# EAGLE library part WIFI-LORA-32 (library ESP32_modules)
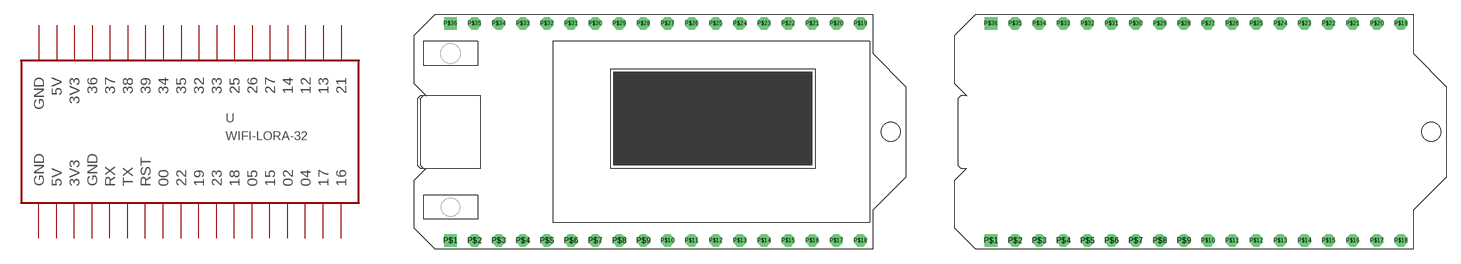
[diagram p0: symbol with the pads of 2.54MM_2X18; footprints 2.54MM_2X18, 2.54MM_2X18_NO_TEXT]

Designator prefix -

## WIFI-LORA-32  [2.54MM_2X18]
P$1  GND  sup
P$2  5V  sup
P$3  3V3  sup
P$4  GND
P$5  RX
P$6  TX
P$7  RST
P$8  00
P$9  22
P$10  19
P$11  23
P$12  18
P$13  05
P$14  15
P$15  02
P$16  04
P$17  17
P$18  16
P$19  21
P$20  13
P$21  12
P$22  14
P$23  27
P$24  26
P$25  25
P$26  33
P$27  32
P$28  35
P$29  34
P$30  39
P$31  38
P$32  37
P$33  36
P$34  3V3  sup
P$35  5V  sup
P$36  GND  sup

## WIFI-LORA-32NO_TEXT  [2.54MM_2X18_NO_TEXT]
Pads as for 2.54MM_2X18

## Footprint 2.54MM_2X18 (pad centres in mm)
drill 0.8 square: P$1 -20.32,-11.43; P$36 -20.32,11.43
drill 0.8 octagon: P$2 -17.78,-11.43; P$3 -15.24,-11.43; P$4 -12.7,-11.43; P$5 -10.16,-11.43; P$6 -7.62,-11.43; P$7 -5.08,-11.43; P$8 -2.54,-11.43; P$9 0,-11.43; P$10 2.54,-11.43; P$11 5.08,-11.43; P$12 7.62,-11.43; P$13 10.16,-11.43; P$14 12.7,-11.43; P$15 15.24,-11.43; P$16 17.78,-11.43; P$17 20.32,-11.43; P$18 22.86,-11.43; P$19 22.86,11.43; P$20 20.32,11.43; P$21 17.78,11.43; P$22 15.24,11.43; P$23 12.7,11.43; P$24 10.16,11.43; P$25 7.62,11.43; P$26 5.08,11.43; P$27 2.54,11.43; P$28 0,11.43; P$29 -2.54,11.43; P$30 -5.08,11.43; P$31 -7.62,11.43; P$32 -10.16,11.43; P$33 -12.7,11.43; P$34 -15.24,11.43; P$35 -17.78,11.43

## Footprint 2.54MM_2X18_NO_TEXT (pad centres in mm)
drill 0.8 square: P$1 -20.32,-11.43; P$36 -20.32,11.43
drill 0.8 octagon: P$2 -17.78,-11.43; P$3 -15.24,-11.43; P$4 -12.7,-11.43; P$5 -10.16,-11.43; P$6 -7.62,-11.43; P$7 -5.08,-11.43; P$8 -2.54,-11.43; P$9 0,-11.43; P$10 2.54,-11.43; P$11 5.08,-11.43; P$12 7.62,-11.43; P$13 10.16,-11.43; P$14 12.7,-11.43; P$15 15.24,-11.43; P$16 17.78,-11.43; P$17 20.32,-11.43; P$18 22.86,-11.43; P$19 22.86,11.43; P$20 20.32,11.43; P$21 17.78,11.43; P$22 15.24,11.43; P$23 12.7,11.43; P$24 10.16,11.43; P$25 7.62,11.43; P$26 5.08,11.43; P$27 2.54,11.43; P$28 0,11.43; P$29 -2.54,11.43; P$30 -5.08,11.43; P$31 -7.62,11.43; P$32 -10.16,11.43; P$33 -12.7,11.43; P$34 -15.24,11.43; P$35 -17.78,11.43